# EAGLE library part XPORT (library lantronix)
Serial to 10/100 Ethernet transceiver Source: http://www.lantronix.com/pdf/XPort_DS.pdf
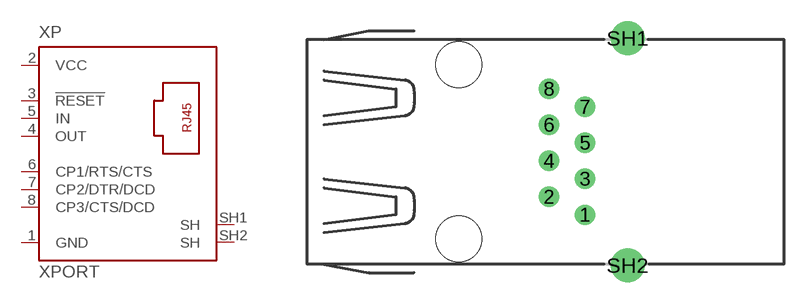
[diagram p0: symbol with the pads of XPORT; footprint XPORT]

Designator prefix XP

## XPORT  [XPORT]
1  GND  pwr
2  VCC  pwr
3  !RESET  in
4  OUT  out
5  IN  in
6  CP1/RTS/CTS
7  CP2/DTR/DCD
8  CP3/CTS/DCD
SH1  SH  pas
SH2  SH  pas

## Footprint XPORT (pad centres in mm)
Serial to 10/100 Ethernet transceiver Source: http://www.lantronix.com/pdf/XPort_DS.pdf
drill 0.9 pad 1.422 round: 1 1.27,-4.445; 2 -1.27,-3.175; 3 1.27,-1.905; 4 -1.27,-0.635; 5 1.27,0.635; 6 -1.27,1.905; 7 1.27,3.175; 8 -1.27,4.445
drill 1.6 pad 2.2 round: SH1 4.28,8.025; SH2 4.28,-8.025
hole 3.25 at -7.62,-6.15
hole 3.25 at -7.62,6.15